# EAGLE library part FTDI-FTR232RL-BREAKOUT (library p.peter-periphery)
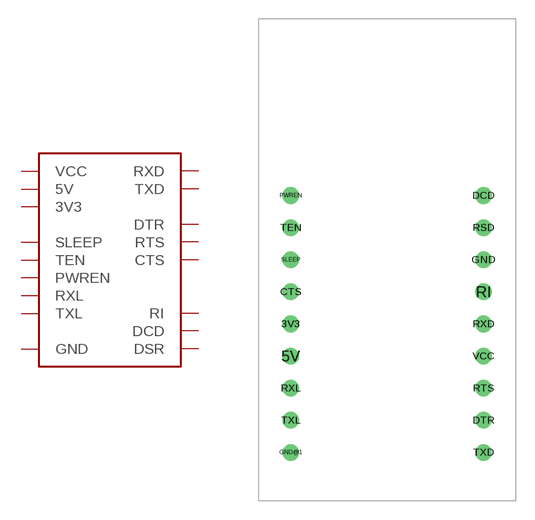
[diagram p14: symbol with the pads of FTDI-FT232RL-BREAKOUT; footprint FTDI-FT232RL-BREAKOUT]

Designator prefix FTDI-

## FTDI-FTR232RL-BREAKOUT-EBAY  [FTDI-FT232RL-BREAKOUT]
3V3  3V3
5V  5V
CTS  CTS
DCD  DCD
DTR  DTR
GND  GND
GND@1  GND
PWREN  PWREN
RI  RI
RSD  DSR
RTS  RTS
RXD  RXD
RXL  RXL
SLEEP  SLEEP
TEN  TEN
TXD  TXD
TXL  TXL
VCC  VCC

## Footprint FTDI-FT232RL-BREAKOUT (pad centres in mm)
drill 0.8: 3V3 -7.62,0; 5V -7.62,-2.54; CTS -7.62,2.54; DCD 7.62,10.16; DTR 7.62,-7.62; GND 7.62,5.08; GND@1 -7.62,-10.16; PWREN -7.62,10.16; RI 7.62,2.54; RSD 7.62,7.62; RTS 7.62,-5.08; RXD 7.62,0; RXL -7.62,-5.08; SLEEP -7.62,5.08; TEN -7.62,7.62; TXD 7.62,-10.16; TXL -7.62,-7.62; VCC 7.62,-2.54